# EAGLE library part INA240 (library GaN_Fet_ESC_V0.2)
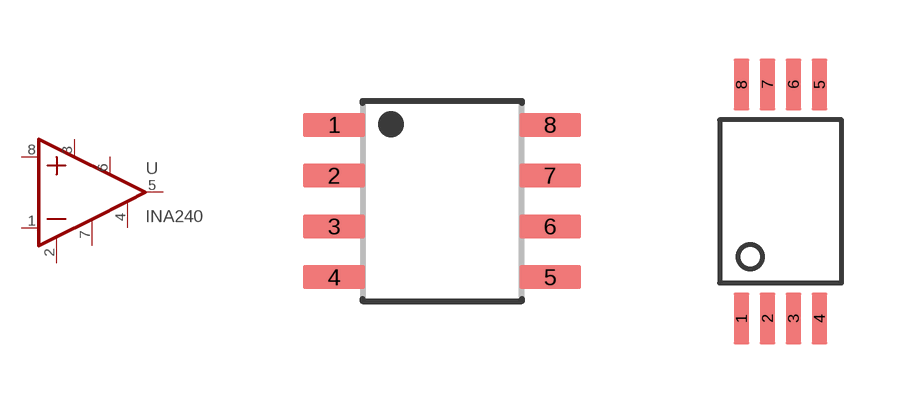
[diagram p3: symbol with the pads of SOIC-8; footprints SOIC-8, TSSOP-8]

Designator prefix U

## INA240/SOIC-8  [SOIC-8]
1  IN-
2  GND
3  REF2
4  NC
5  OUT
6  VS
7  REF1
8  IN+

## INA240/TSSOP-8  [TSSOP-8]
1  NC
2  IN+
3  IN-
4  GND
5  VS
6  REF2
7  REF1
8  OUT

## Footprint SOIC-8 (pad centres in mm)
smd 1.55 x 0.6: 1 -2.7,1.905; 2 -2.7,0.635; 3 -2.7,-0.635; 4 -2.7,-1.905; 5 2.7,-1.905; 6 2.7,-0.635; 7 2.7,0.635; 8 2.7,1.905

## Footprint TSSOP-8 (pad centres in mm)
smd 0.4 x 1.3: 1 -0.975,-2.925; 2 -0.325,-2.925; 3 0.325,-2.925; 4 0.975,-2.925; 5 0.975,2.925; 6 0.325,2.925; 7 -0.325,2.925; 8 -0.975,2.925